# Altium footprint library RES-SMD-0805.PcbLib: 70 footprints (part 4 of 5)
Each footprint in its own frame and in the unit in brackets; x right, y up, seen from the top. Pads: shape width x height; smd on the part's side, far side on the other; paste and mask are expansions set on the pad; w line width, h text height; cw(c..) or ccw(c..) is an arc to the next point about the centre after c.
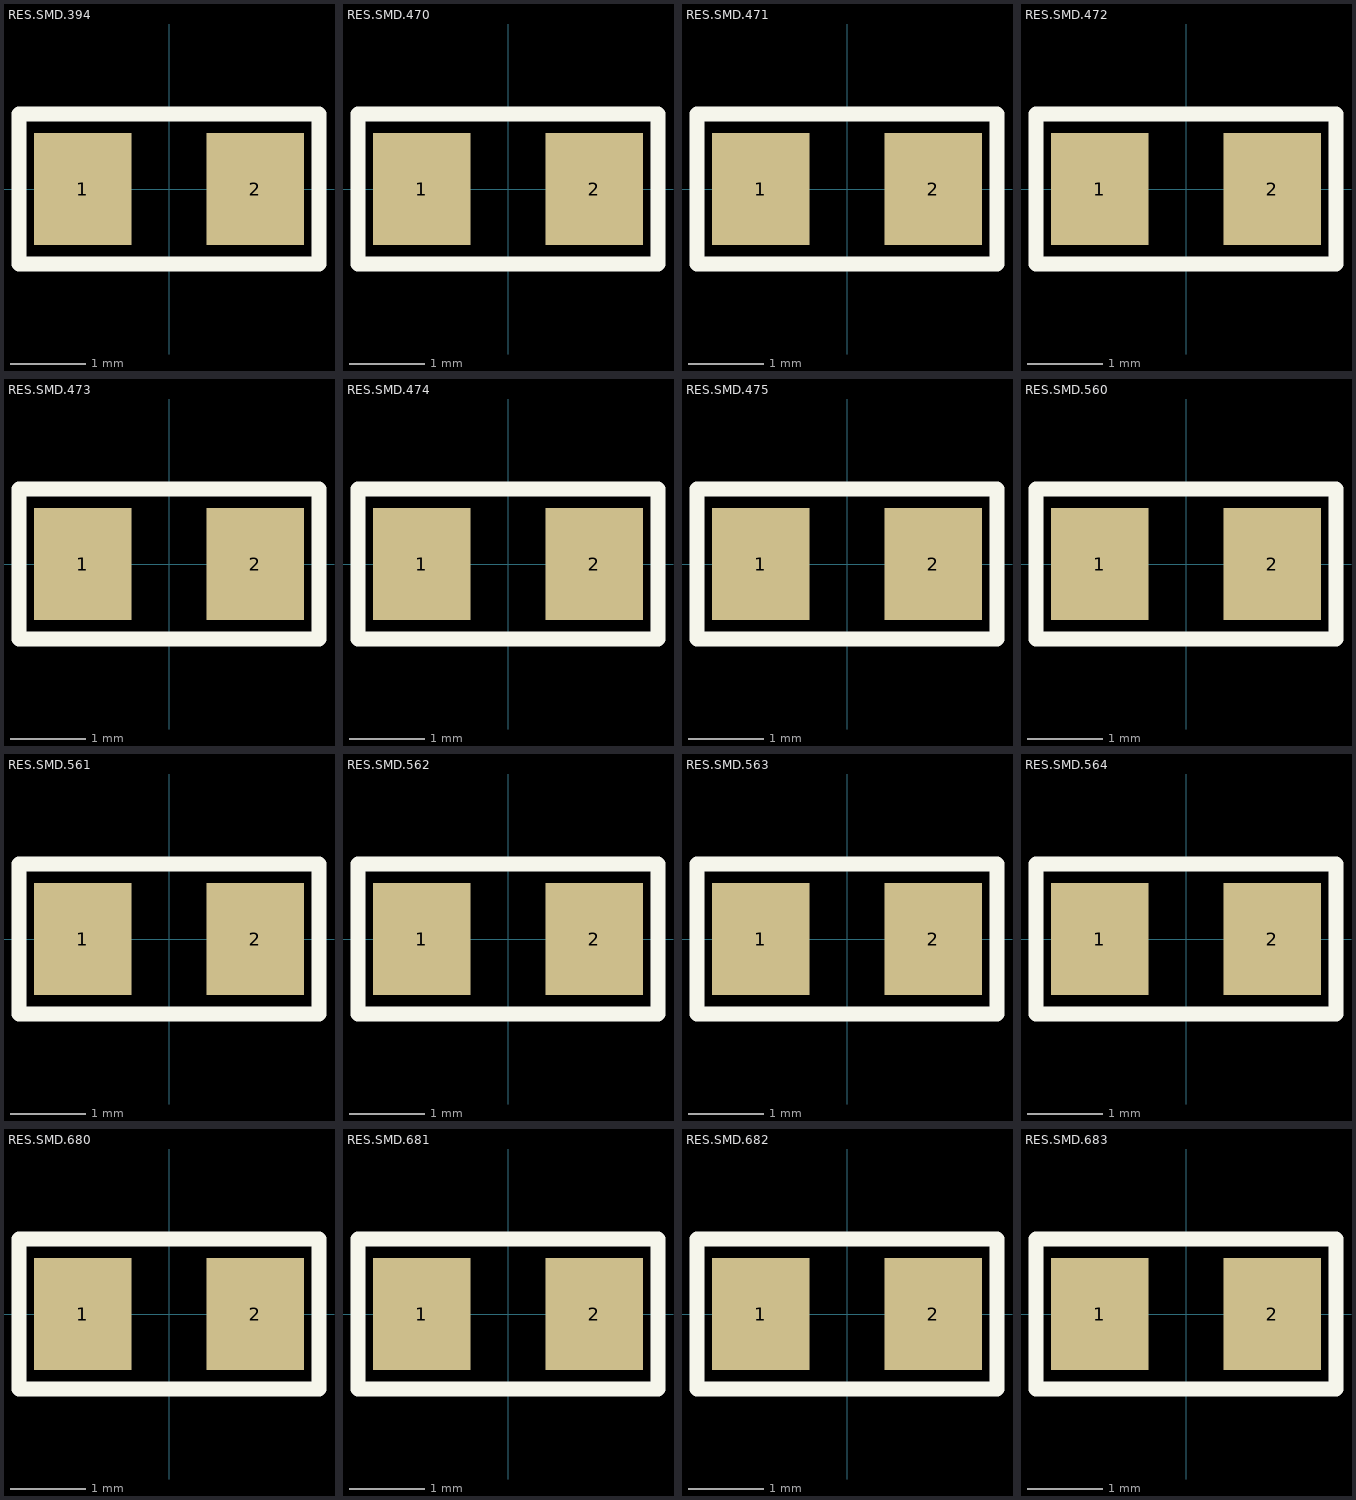
[diagram p3: the footprints below, top view; thin cyan lines are the x and y axes]

## RES.SMD.394 [mm] "5% 0805 1/8W RES.SMD"
pads (2):
  rect 1.3x1.5 smd: 1(-1.15,0) 2(1.15,0)
Top Overlay:
  lines w0.2: -2,-1 -2,1 2,1 2,-1 -2,-1
3D body "RES-SMD-394.stp": height 0.48, standoff -0.02, extent -0.873,-0.625 1.127,0.625

## RES.SMD.470 [mm] "5% 0805 1/8W RES.SMD"
pads (2):
  rect 1.3x1.5 smd: 1(-1.15,0) 2(1.15,0)
Top Overlay:
  lines w0.2: -2,-1 -2,1 2,1 2,-1 -2,-1
3D body "RES-SMD-470.stp": height 0.48, standoff -0.02, extent -0.873,-0.625 1.127,0.625

## RES.SMD.471 [mm] "5% 0805 1/8W RES.SMD"
pads (2):
  rect 1.3x1.5 smd: 1(-1.15,0) 2(1.15,0)
Top Overlay:
  lines w0.2: -2,-1 -2,1 2,1 2,-1 -2,-1
3D body "RES-SMD-471.stp": height 0.48, standoff -0.02, extent -0.873,-0.625 1.127,0.625

## RES.SMD.472 [mm] "5% 0805 1/8W RES.SMD"
pads (2):
  rect 1.3x1.5 smd: 1(-1.15,0) 2(1.15,0)
Top Overlay:
  lines w0.2: -2,-1 -2,1 2,1 2,-1 -2,-1
3D body "RES-SMD-472.stp": height 0.48, standoff -0.02, extent -0.873,-0.625 1.127,0.625

## RES.SMD.473 [mm] "5% 0805 1/8W RES.SMD"
pads (2):
  rect 1.3x1.5 smd: 1(-1.15,0) 2(1.15,0)
Top Overlay:
  lines w0.2: -2,-1 -2,1 2,1 2,-1 -2,-1
3D body "RES-SMD-473.stp": height 0.48, standoff -0.02, extent -0.873,-0.625 1.127,0.625

## RES.SMD.474 [mm] "5% 0805 1/8W RES.SMD"
pads (2):
  rect 1.3x1.5 smd: 1(-1.15,0) 2(1.15,0)
Top Overlay:
  lines w0.2: -2,-1 -2,1 2,1 2,-1 -2,-1
3D body "RES-SMD-474.stp": height 0.48, standoff -0.02, extent -0.873,-0.625 1.127,0.625

## RES.SMD.475 [mm] "5% 0805 1/8W RES.SMD"
pads (2):
  rect 1.3x1.5 smd: 1(-1.15,0) 2(1.15,0)
Top Overlay:
  lines w0.2: -2,-1 -2,1 2,1 2,-1 -2,-1
3D body "RES-SMD-475.stp": height 0.48, standoff -0.02, extent -0.873,-0.625 1.127,0.625

## RES.SMD.560 [mm] "5% 0805 1/8W RES.SMD"
pads (2):
  rect 1.3x1.5 smd: 1(-1.15,0) 2(1.15,0)
Top Overlay:
  lines w0.2: -2,-1 2,-1 2,1 -2,1 -2,-1
3D body "RES-SMD-560.stp": height 0.48, standoff -0.02, extent -0.873,-0.625 1.127,0.625

## RES.SMD.561 [mm] "5% 0805 1/8W RES.SMD"
pads (2):
  rect 1.3x1.5 smd: 1(-1.15,0) 2(1.15,0)
Top Overlay:
  lines w0.2: -2,-1 2,-1 2,1 -2,1 -2,-1
3D body "RES-SMD-561.stp": height 0.48, standoff -0.02, extent -0.873,-0.625 1.127,0.625

## RES.SMD.562 [mm] "5% 0805 1/8W RES.SMD"
pads (2):
  rect 1.3x1.5 smd: 1(-1.15,0) 2(1.15,0)
Top Overlay:
  lines w0.2: -2,-1 -2,1 2,1 2,-1 -2,-1
3D body "RES-SMD-562.stp": height 0.48, standoff -0.02, extent -0.873,-0.625 1.127,0.625

## RES.SMD.563 [mm] "5% 0805 1/8W RES.SMD"
pads (2):
  rect 1.3x1.5 smd: 1(-1.15,0) 2(1.15,0)
Top Overlay:
  lines w0.2: -2,-1 -2,1 2,1 2,-1 -2,-1
3D body "RES-SMD-563.stp": height 0.48, standoff -0.02, extent -0.873,-0.625 1.127,0.625

## RES.SMD.564 [mm] "5% 0805 1/8W RES.SMD"
pads (2):
  rect 1.3x1.5 smd: 1(-1.15,0) 2(1.15,0)
Top Overlay:
  lines w0.2: -2,-1 2,-1 2,1 -2,1 -2,-1
3D body "RES-SMD-564.stp": height 0.48, standoff -0.02, extent -0.873,-0.625 1.127,0.625

## RES.SMD.680 [mm] "5% 0805 1/8W RES.SMD"
pads (2):
  rect 1.3x1.5 smd: 1(-1.15,0) 2(1.15,0)
Top Overlay:
  lines w0.2: -2,-1 2,-1 2,1 -2,1 -2,-1
3D body "RES-SMD-680.stp": height 0.48, standoff -0.02, extent -0.873,-0.625 1.127,0.625

## RES.SMD.681 [mm] "5% 0805 1/8W RES.SMD"
pads (2):
  rect 1.3x1.5 smd: 1(-1.15,0) 2(1.15,0)
Top Overlay:
  lines w0.2: -2,-1 2,-1 2,1 -2,1 -2,-1
3D body "RES-SMD-681.stp": height 0.48, standoff -0.02, extent -0.873,-0.625 1.127,0.625

## RES.SMD.682 [mm] "5% 0805 1/8W RES.SMD"
pads (2):
  rect 1.3x1.5 smd: 1(-1.15,0) 2(1.15,0)
Top Overlay:
  lines w0.2: -2,-1 -2,1 2,1 2,-1 -2,-1
3D body "RES-SMD-682.stp": height 0.48, standoff -0.02, extent -0.873,-0.625 1.127,0.625

## RES.SMD.683 [mm] "5% 0805 1/8W RES.SMD"
pads (2):
  rect 1.3x1.5 smd: 1(-1.15,0) 2(1.15,0)
Top Overlay:
  lines w0.2: -2,-1 2,-1 2,1 -2,1 -2,-1
3D body "RES-SMD-683.stp": height 0.48, standoff -0.02, extent -0.873,-0.625 1.127,0.625